# Altium footprint library ST_1610.PcbLib: 1 footprints
Each footprint in its own frame and in the unit in brackets; x right, y up, seen from the top. Pads: shape width x height; smd on the part's side, far side on the other; paste and mask are expansions set on the pad; w line width, h text height; cw(c..) or ccw(c..) is an arc to the next point about the centre after c.
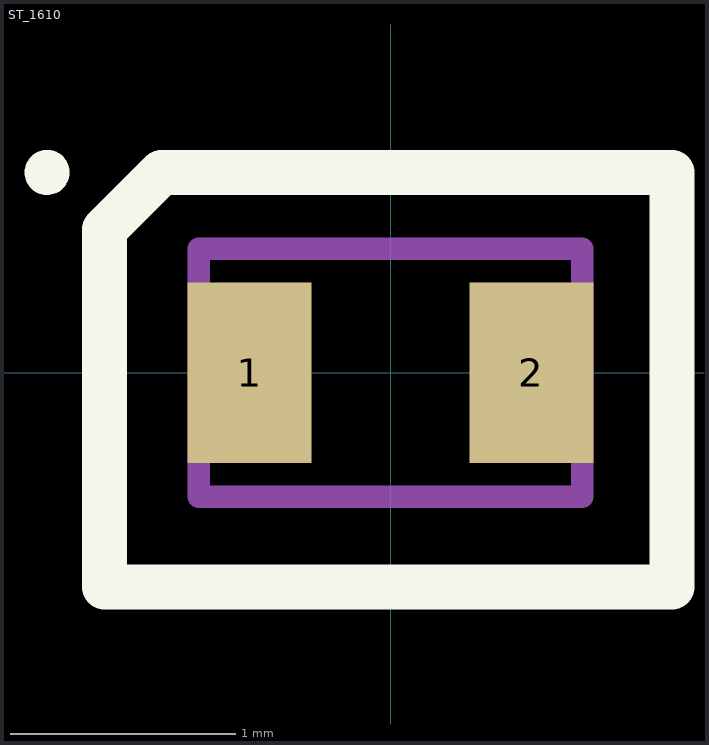
[diagram p0: the footprint, top view; thin cyan lines are the x and y axes]

## ST_1610 [mm]
height 0.6
pads (2):
  rect 0.55x0.8 smd: 1(-0.625,0) 2(0.625,0)
Top Overlay:
  circle w0.1: c-1.524,0.889 r0.05
  lines w0.2: -1.27,-0.95 -1.27,0.635 -1.016,0.889 1.25,0.889 1.25,-0.95 -1.27,-0.95
Mechanical 13:
  lines w0.1: -0.85,-0.55 -0.85,0.55 0.85,0.55 0.85,-0.55 -0.85,-0.55
3D body "ST_1610.step": height 0.6, standoff 0, extent -0.85,-0.55 0.85,0.55